# Altium footprint library VQFN-HR-14(4.0X3.5).PcbLib: 1 footprints
Each footprint in its own frame and in the unit in brackets; x right, y up, seen from the top. Pads: shape width x height; smd on the part's side, far side on the other; paste and mask are expansions set on the pad; w line width, h text height; cw(c..) or ccw(c..) is an arc to the next point about the centre after c.
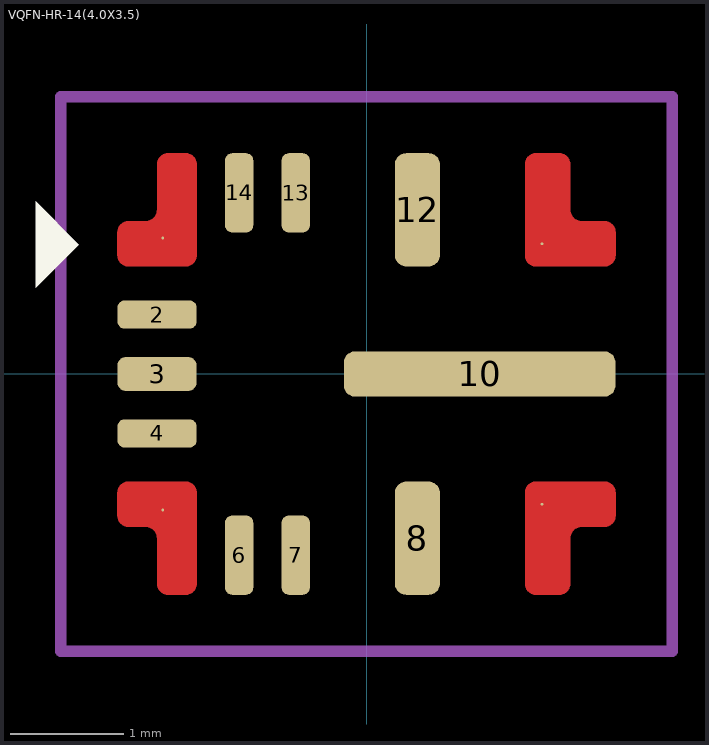
[diagram p0: the footprint, top view; thin cyan lines are the x and y axes]

## VQFN-HR-14(4.0X3.5) [mm]
pads (14):
  round 0.025 smd paste-1: 1(-1.8,1.2) 5(-1.8,-1.2) 9(1.55,-1.15) 11(1.55,1.15)
  rrect50% 0.7x0.25 smd: 2(-1.85,0.525) 4(-1.85,-0.525)
  rrect50% 0.7x0.3 smd: 3(-1.85,0)
  rrect50% 0.25x0.7 smd: 6(-1.125,-1.6) 7(-0.625,-1.6) 13(-0.625,1.6) 14(-1.125,1.6)
  rrect50% 0.4x1 smd: 8(0.45,-1.45) 12(0.45,1.45)
  rrect50% 2.4x0.4 smd paste-2: 10(1,0)
Top Layer:
  region: 180 vertices and 0 holes, not listed, extent 1.4,0.95 2.2,1.95
  region: 180 vertices and 0 holes, not listed, extent -2.2,0.95 -1.5,1.95
  region: 180 vertices and 0 holes, not listed, extent -2.2,-1.95 -1.5,-0.95
  region: 180 vertices and 0 holes, not listed, extent 1.4,-1.95 2.2,-0.95
Top Overlay:
  region: -2.921,1.524 -2.54,1.143 -2.921,0.762
Top Paste:
  drawing of 6 lines, arcs and shapes, not listed
Top Courtyard:
  lines w0.1: -2.7,-2.45 -2.7,0.525 -2.7,2.45 1.6,2.45 2.7,2.45 2.7,-1.15 2.7,-2.45 -1.675,-2.45 -2.7,-2.45
3D body "step_temp.STEP": height 1, standoff 0, extent -2,-1.75 2,1.75